# Altium footprint library ECG2.0.PcbLib: 24 footprints (part 2 of 2)
Each footprint in its own frame and in the unit in brackets; x right, y up, seen from the top. Pads: shape width x height; smd on the part's side, far side on the other; paste and mask are expansions set on the pad; w line width, h text height; cw(c..) or ccw(c..) is an arc to the next point about the centre after c.
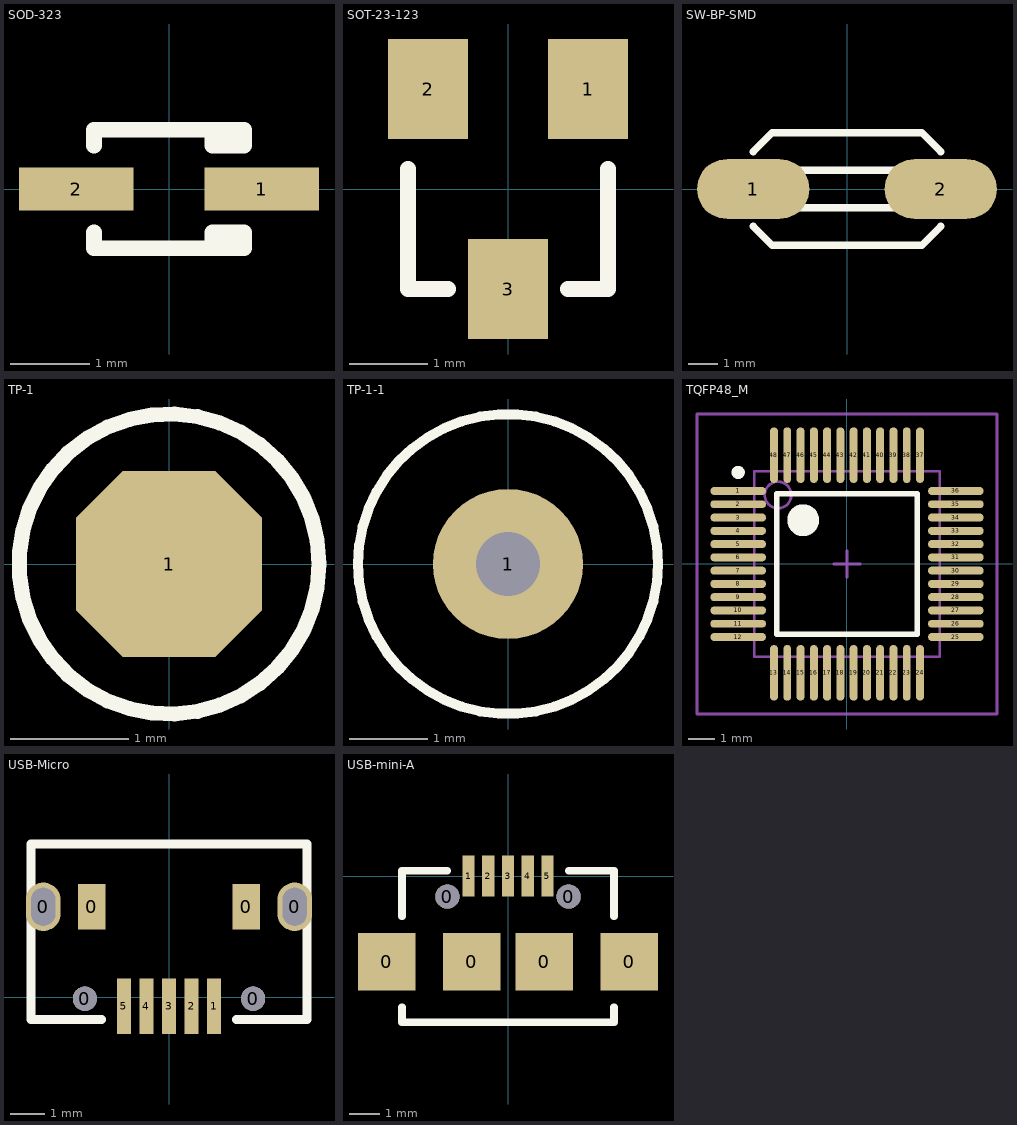
[diagram p1: the footprints below, top view; thin cyan lines are the x and y axes]

## SOD-323 [mm] "SOD-323/SC-76; 2 Leads; Body 1.7 x 1.3 mm, (LxW)"
height 1.1
pads (2):
  rect 1.45x0.55 smd: 1(1.175,0) 2(-1.175,0)
Top Overlay:
  lines w0.2: -0.95,-0.55 -0.95,-0.75 0.95,-0.75 0.95,-0.55 0.55,-0.55 0.55,-0.75 ; -0.95,0.55 -0.95,0.75 0.95,0.75 0.95,0.55 0.55,0.55 0.55,0.75

## SOT-23-123 [mil]
pads (3):
  rect 40x50 smd: 1(40,50) 2(-40,50) 3(0,-50)
Top Overlay:
  lines w8: -50,10 -50,-50 -30,-50 ; 30,-50 50,-50 50,10
3D body "SOT-23-3.STEP": height 47.24, standoff 0, extent -57.09,-55 57.09,55.24

## SW-BP-SMD [mil]
pads (2):
  oval 150x80 smd: 1(-125,0) 2(125,0)
Top Overlay:
  lines w10: -125,-50 -100,-75 100,-75 125,-50 ; -125,50 -100,75 100,75 125,50 ; -75,-25 75,-25 75,25 -75,25 -75,-25

## TP-1 [mil]
pads (1):
  oct 62x62 smd: 1(0,0)
Top Overlay:
  circle w5: c0,0 r50

## TP-1-1 [mil]
pads (1):
  round 75 hole 32: 1(0,0)
Top Overlay:
  circle w5: c0,0 r75
3D body "User Library-TEST POINT RED Keystone 5010.step": height 319.95, standoff -121.94, extent -67.5,-57.5 57.5,67.5

## TQFP48_M [mm] "48-Pin Thin Quad Flat Pack 0.5 mm Pitch, IPC Low Density"
height 1.6
pads (48):
  oval 2.1x0.3 smd: 1(-4.1,2.75) 2(-4.1,2.25) 3(-4.1,1.75) 4(-4.1,1.25) 5(-4.1,0.75) 6(-4.1,0.25) 7(-4.1,-0.25) 8(-4.1,-0.75) 9(-4.1,-1.25) 10(-4.1,-1.75) 11(-4.1,-2.25) 12(-4.1,-2.75) 25(4.1,-2.75) 26(4.1,-2.25) 27(4.1,-1.75) 28(4.1,-1.25) 29(4.1,-0.75) 30(4.1,-0.25) 31(4.1,0.25) 32(4.1,0.75) 33(4.1,1.25) 34(4.1,1.75) 35(4.1,2.25) 36(4.1,2.75)
  oval 0.3x2.1 smd: 13(-2.75,-4.1) 14(-2.25,-4.1) 15(-1.75,-4.1) 16(-1.25,-4.1) 17(-0.75,-4.1) 18(-0.25,-4.1) 19(0.25,-4.1) 20(0.75,-4.1) 21(1.25,-4.1) 22(1.75,-4.1) 23(2.25,-4.1) 24(2.75,-4.1) 37(2.75,4.1) 38(2.25,4.1) 39(1.75,4.1) 40(1.25,4.1) 41(0.75,4.1) 42(0.25,4.1) 43(-0.25,4.1) 44(-0.75,4.1) 45(-1.25,4.1) 46(-1.75,4.1) 47(-2.25,4.1) 48(-2.75,4.1)
Top Overlay:
  circle w0.25: c-4.1,3.45 r0.125
  circle w0.6: c-1.65,1.65 r0.3
  lines w0.2: -2.65,-2.65 -2.65,2.65 2.65,2.65 2.65,-2.65 -2.65,-2.65
Mechanical 13:
  circle w0.1: c-2.6,2.6 r0.5
  lines w0.1: -3.5,-3.5 -3.5,3.5 3.5,3.5 3.5,-3.5 -3.5,-3.5
Mechanical 15:
  lines w0.1: -0.5,0 0.5,0 ; 0,-0.5 0,0.5 ; -5.65,-5.65 -5.65,5.65 5.65,5.65 5.65,-5.65 -5.65,-5.65
3D body: height 1.6, standoff 0, extent -3.5,-3.5 3.5,3.5

## USB-Micro [mm]
height 1.85
pads (11):
  oval 1x1.4 hole 0.7 slot 1.1 at 90 deg: 0(-3.625,2.615) 0(3.625,2.615)
  round 0.7 hole 0.7: 0(-2.425,-0.035) 0(2.425,-0.035)
  rect 0.8x1.3 smd: 0(-2.225,2.615) 0(2.225,2.615)
  rect 0.4x1.6 smd: 1(1.3,-0.254) 2(0.65,-0.254) 3(0,-0.254) 4(-0.65,-0.254) 5(-1.3,-0.254)
Top Overlay:
  lines w0.254: -3.981,-0.635 -3.981,4.425 ; -3.9,-0.635 -1.95,-0.635 ; -3.9,4.425 3.9,4.425 ; 1.95,-0.635 3.9,-0.635 ; 3.981,-0.635 3.981,4.425

## USB-mini-A [mm]
pads (11):
  rect 1.9x1.9 smd: 0(-4,-2.825) 0(-1.2,-2.825) 0(1.2,-2.825) 0(4,-2.825)
  round 0.8 hole 0.8: 0(-2,-0.675) 0(2,-0.675)
  rect 0.4x1.35 smd: 1(-1.3,0) 2(-0.65,0) 3(0,0) 4(0.65,0) 5(1.3,0)
Top Overlay:
  lines w0.254: -3.5,-4.325 -3.5,-4.825 3.5,-4.825 3.5,-4.325 ; -3.5,-1.325 -3.5,0.175 -2.5,0.175 -2,0.175 ; 2,0.175 3.5,0.175 3.5,-1.325